# EAGLE library part ADP2164ACPZ-R7 (library My_Library)
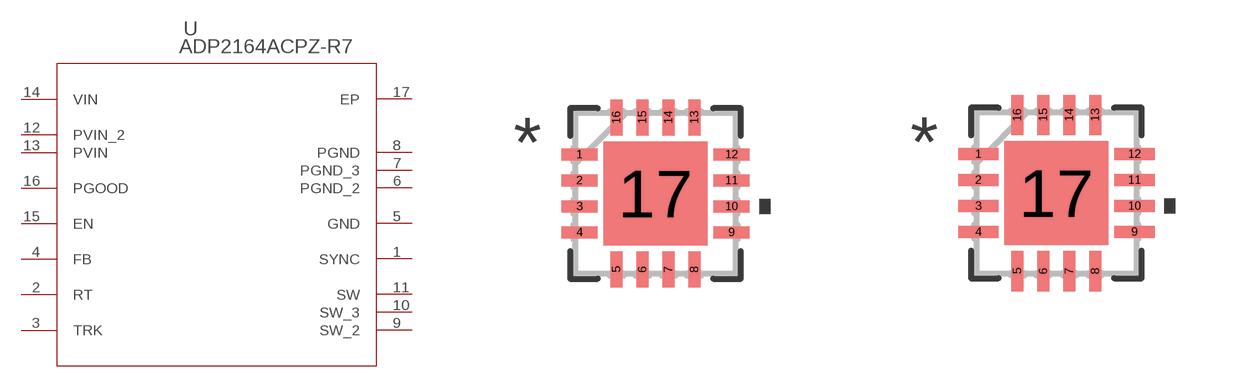
[diagram p11: symbol with the pads of CP_16_17_ADI; footprints CP_16_17_ADI, CP_16_17_ADI-M]

Designator prefix U

## ADP2164ACPZ-R7 (COPYRIGHT: Copyright (C) 2024 Ultra Librarian. All rights reserved.; MANUFACTURER_PART_NUMBER: ADP2164ACPZ-R7; MFR_NAME: Analog Devices Inc)  [CP_16_17_ADI]
1  SYNC  pas
2  RT  pas
3  TRK  pas
4  FB  pas
5  GND  pas
6  PGND_2  pas
7  PGND_3  pas
8  PGND  pas
9  SW_2  pas
10  SW_3  pas
11  SW  pas
12  PVIN_2  pas
13  PVIN  pas
14  VIN  pas
15  EN  pas
16  PGOOD  pas
17  EP  pas

## ADP2164ACPZ-R7CP_16_17_ADI-M (COPYRIGHT: Copyright (C) 2024 Ultra Librarian. All rights reserved.; MANUFACTURER_PART_NUMBER: ADP2164ACPZ-R7; MFR_NAME: Analog Devices Inc)  [CP_16_17_ADI-M]
Pads as for CP_16_17_ADI

## ADP2164ACPZ-R7CP_16_17_ADI-L (COPYRIGHT: Copyright (C) 2024 Ultra Librarian. All rights reserved.; MANUFACTURER_PART_NUMBER: ADP2164ACPZ-R7; MFR_NAME: Analog Devices Inc)  [CP_16_17_ADI-L]
Pads as for CP_16_17_ADI

## Footprint CP_16_17_ADI (pad centres in mm)
smd 0.905 x 0.299: 1 -1.902,0.975; 2 -1.902,0.325; 3 -1.902,-0.325; 4 -1.902,-0.975; 9 1.902,-0.975; 10 1.902,-0.325; 11 1.902,0.325; 12 1.902,0.975
smd 0.299 x 0.905: 5 -0.975,-1.902; 6 -0.325,-1.902; 7 0.325,-1.902; 8 0.975,-1.902; 13 0.975,1.902; 14 0.325,1.902; 15 -0.325,1.902; 16 -0.975,1.902
smd 2.6 x 2.6: 17 0,0

## Footprint CP_16_17_ADI-M (pad centres in mm)
smd 1.006 x 0.299: 1 -1.953,0.975; 2 -1.953,0.325; 3 -1.953,-0.325; 4 -1.953,-0.975; 9 1.953,-0.975; 10 1.953,-0.325; 11 1.953,0.325; 12 1.953,0.975
smd 0.299 x 1.006: 5 -0.975,-1.953; 6 -0.325,-1.953; 7 0.325,-1.953; 8 0.975,-1.953; 13 0.975,1.953; 14 0.325,1.953; 15 -0.325,1.953; 16 -0.975,1.953
smd 2.6 x 2.6: 17 0,0

## Footprint CP_16_17_ADI-L (pad centres in mm)
smd 0.803 x 0.299: 1 -1.852,0.975; 2 -1.852,0.325; 3 -1.852,-0.325; 4 -1.852,-0.975; 9 1.852,-0.975; 10 1.852,-0.325; 11 1.852,0.325; 12 1.852,0.975
smd 0.299 x 0.803: 5 -0.975,-1.852; 6 -0.325,-1.852; 7 0.325,-1.852; 8 0.975,-1.852; 13 0.975,1.852; 14 0.325,1.852; 15 -0.325,1.852; 16 -0.975,1.852
smd 2.6 x 2.6: 17 0,0